# Altium schematic symbol library SnapEDAsch.SchLib: 1 symbol
Pins are listed as number, name and electrical type; pins without a type are passive.

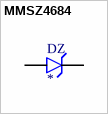
[diagram p0: symbol MMSZ4684]

## MMSZ4684
designator DZ
Zener Diode 3.3V 500mW Â±5% Surface Mount SOD-123; MF: ON Semiconductor; MP: MMSZ4684; Value: *; Price: None; Availability: Unavailable; SnapEDA_Link: https://www.snapeda.com/parts/MMSZ4684/ON%20Semiconductor/view-part/705126/?ref=snap; Package: SOD-123 Fairchild Semiconductor
footprint SOD-123
pins: A, C